# Altium footprint library Optocoupler_Pcb.PcbLib: 7 footprints
Each footprint in its own frame and in the unit in brackets; x right, y up, seen from the top. Pads: shape width x height; smd on the part's side, far side on the other; paste and mask are expansions set on the pad; w line width, h text height; cw(c..) or ccw(c..) is an arc to the next point about the centre after c.
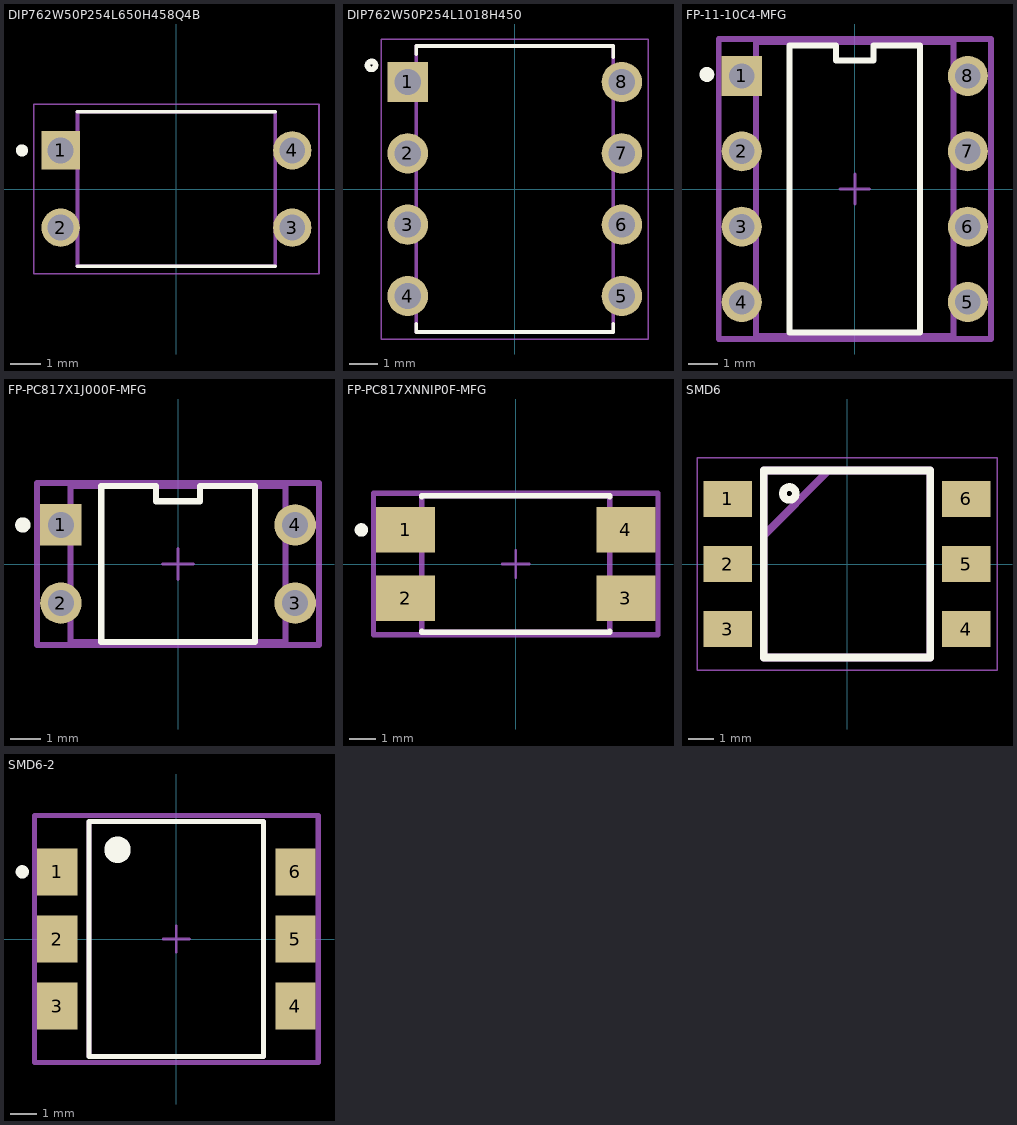
[diagram p0: the footprints below, top view; thin cyan lines are the x and y axes]

## DIP762W50P254L650H458Q4B [mm]
pads (4):
  rect 1.26x1.26 hole 0.85: 1(-3.81,1.27)
  round 1.26 hole 0.85: 2(-3.81,-1.27) 3(3.81,-1.27) 4(3.81,1.27)
Top Overlay:
  circle w0.2: c-5.08,1.27 r0.1
  lines w0.127: -3.25,-2.54 3.25,-2.54 ; -3.25,2.54 3.25,2.54
Mechanical 13:
  lines w0.127: -3.25,-2.54 3.25,-2.54 3.25,2.54 -3.25,2.54 -3.25,-2.54
Mechanical 15:
  lines w0.05: -4.69,-2.79 -4.69,2.79 4.69,2.79 4.69,-2.79 -4.69,-2.79
3D body "PC817A--3DModel-STEP-56544.STEP": height 4.01, standoff -4.09, extent -3.94,-2.29 3.94,2.29

## DIP762W50P254L1018H450 [mm]
pads (8):
  rect 1.438x1.438 hole 0.93: 1(-3.81,3.81)
  round 1.438 hole 0.93: 2(-3.81,1.27) 3(-3.81,-1.27) 4(-3.81,-3.81) 5(3.81,-3.81) 6(3.81,-1.27) 7(3.81,1.27) 8(3.81,3.81)
Top Overlay:
  circle w0.2: c-5.1,4.4 r0.141
  lines w0.127: -3.5,-4.8 -3.5,-5.09 3.5,-5.09 3.5,-4.8 ; -3.5,4.8 -3.5,5.09 1.016,5.09 3.5,5.09 3.5,4.7
Mechanical 4:
  lines w0.127: -3.5,-5.09 -3.5,5.09 ; -3.5,-5.09 3.5,-5.09 ; -3.5,-5.09 -3.5,5.09 ; -3.5,-5.09 3.5,-5.09 ; -3.5,5.09 3.5,5.09 ; -3.5,5.09 3.5,5.09 ; 3.5,-5.09 3.5,5.09 ; 3.5,-5.09 3.5,5.09
Mechanical 16:
  lines w0.05: -4.76,-5.34 4.76,-5.34 4.76,5.34 -4.76,5.34 -4.76,-5.34
3D body "TLP250-F---3DModel-STEP-56544.STEP": height 4.48, standoff -2.87, extent -4.287,-4.83 4.287,4.83

## FP-11-10C4-MFG [mm]
pads (8):
  rect 1.35x1.35 hole 0.85 paste-1000 mask+0: 1(-3.81,3.81)
  round 1.35 hole 0.85 paste-1000 mask+0: 2(-3.81,1.27) 3(-3.81,-1.27) 4(-3.81,-3.81) 5(3.81,-3.81) 6(3.81,-1.27) 7(3.81,1.27) 8(3.81,3.81)
Top Overlay:
  circle w0.25: c-4.985,3.86 r0.125
  lines w0.2: -2.2,-4.83 2.2,-4.83 2.2,4.83 0.629,4.83 0.629,4.33 -0.629,4.33 -0.629,4.83 -2.2,4.83 -2.2,-4.83
Mechanical 5:
  lines w0.2: -4.585,-5.055 -4.585,5.055 4.585,5.055 4.585,-5.055 -4.585,-5.055
  text ".Designator" at 0,0.188 h1
Mechanical 13:
  lines w0.2: -3.325,-4.955 -3.325,4.955 3.325,4.955 3.325,-4.955 -3.325,-4.955
Mechanical 15:
  lines w0.2: -4.585,-5.055 -4.585,5.055 4.585,5.055 4.585,-5.055 -4.585,-5.055
Mechanical 16:
  lines w0.1: -0.5,0 0.5,0 ; 0,-0.5 0,0.5
3D body "Trans_TOSHIBA_TLP250_eec.STEP": height 0.25, standoff 0, extent -4.585,-5.055 4.585,5.055

## FP-PC817X1J000F-MFG [mm]
pads (4):
  rect 1.35x1.35 hole 0.85 paste-1000 mask+0: 1(-3.81,1.27)
  round 1.35 hole 0.85 paste-1000 mask+0: 2(-3.81,-1.27) 3(3.81,-1.27) 4(3.81,1.27)
Top Overlay:
  circle w0.25: c-5.05,1.27 r0.125
  lines w0.2: -2.5,-2.54 -2.5,2.54 -0.714,2.54 -0.714,2.04 0.714,2.04 0.714,2.54 2.5,2.54 2.5,-2.54 -2.5,-2.54
Mechanical 5:
  lines w0.2: -4.585,-2.64 4.585,-2.64 4.585,2.64 -4.585,2.64 -4.585,-2.64
  text ".Designator" at 0,0.188 h1
Mechanical 13:
  lines w0.2: -3.5,-2.54 3.5,-2.54 3.5,2.54 -3.5,2.54 -3.5,-2.54
Mechanical 15:
  lines w0.2: -4.585,-2.64 4.585,-2.64 4.585,2.64 -4.585,2.64 -4.585,-2.64
Mechanical 16:
  lines w0.1: -0.5,0 0.5,0 ; 0,-0.5 0,0.5
3D body "Trans_Sharp_PC817X1J000F_eec.STEP": height 0.25, standoff 0, extent -4.585,-2.64 4.585,2.64

## FP-PC817XNNIP0F-MFG [mm]
pads (4):
  rect 2.2x1.7 smd paste+0 mask+0: 1(-4.1,1.27) 2(-4.1,-1.27) 3(4.1,-1.27) 4(4.1,1.27)
Top Overlay:
  circle w0.25: c-5.75,1.27 r0.125
  lines w0.2: -3.5,-2.495 -3.5,-2.54 3.5,-2.54 3.5,-2.495 ; -3.5,2.495 -3.5,2.54 3.5,2.54 3.5,2.495
Mechanical 5:
  lines w0.2: -5.3,-2.64 5.3,-2.64 5.3,2.64 -5.3,2.64 -5.3,-2.64
  text ".Designator" at 0,0.188 h1
Mechanical 13:
  lines w0.2: -3.5,-2.54 3.5,-2.54 3.5,2.54 -3.5,2.54 -3.5,-2.54
Mechanical 15:
  lines w0.2: -5.3,-2.64 5.3,-2.64 5.3,2.64 -5.3,2.64 -5.3,-2.64
Mechanical 16:
  lines w0.1: -0.5,0 0.5,0 ; 0,-0.5 0,0.5
3D body "Trans_SHARP_PC817XNNIP0F_eec.STEP": height 0.25, standoff 0, extent -5.3,-2.64 5.3,2.64

## SMD6 [mm]
pads (6):
  rect 1.9x1.4 smd: 1(-4.65,2.54) 2(-4.65,0) 3(-4.65,-2.54) 4(4.65,-2.54) 5(4.65,0) 6(4.65,2.54)
Top Overlay:
  circle w0.3: c-2.25,2.75 r0.25
  lines w0.3: -3.25,-3.65 3.25,-3.65 3.25,3.65 -3.25,3.65 -3.25,-3.65
Mechanical 13:
  lines w0.3: -3.25,1.11 -0.71,3.65 ; -3.25,-3.65 3.25,-3.65 3.25,3.65 -3.25,3.65 -3.25,-3.65
  text ".designator" at -2.725,-1.78 h2
Mechanical 15:
  lines w0.05: -5.85,-4.15 5.85,-4.15 5.85,4.15 -5.85,4.15 -5.85,-4.15
3D body "MOC3063S-TA1.stp": height 4.6, standoff 0, extent -5.08,-3.65 5.08,3.65

## SMD6-2 [mm]
pads (6):
  rect 1.52x1.78 smd paste+0 mask+0: 1(-4.505,2.54) 2(-4.505,0) 3(-4.505,-2.54) 4(4.505,-2.54) 5(4.505,0) 6(4.505,2.54)
Top Overlay:
  circle w0.5: c-2.225,3.375 r0.25
  circle w0.25: c-5.825,2.54 r0.125
  lines w0.2: -3.3,-4.445 -3.3,4.445 3.3,4.445 3.3,-4.445 -3.3,-4.445
Mechanical 13:
  lines w0.2: -3.3,-4.445 -3.3,4.445 3.3,4.445 3.3,-4.445 -3.3,-4.445
  text ".Designator" at -2.25,-0.312 h1
Mechanical 15:
  lines w0.2: -5.365,-4.672 -5.365,4.672 5.365,4.672 5.365,-4.672 -5.365,-4.672
Mechanical 16:
  lines w0.1: -0.5,0 0.5,0 ; 0,-0.5 0,0.5
3D body "Trans_ON_Semiconductor_MOC3063SR2VM_eec.STEP": height 4.95, standoff -0.13, extent -4.582,-4.255 4.583,4.255